# EAGLE library part MT25QL01GBBB8E12-0AUT (library My_Library)
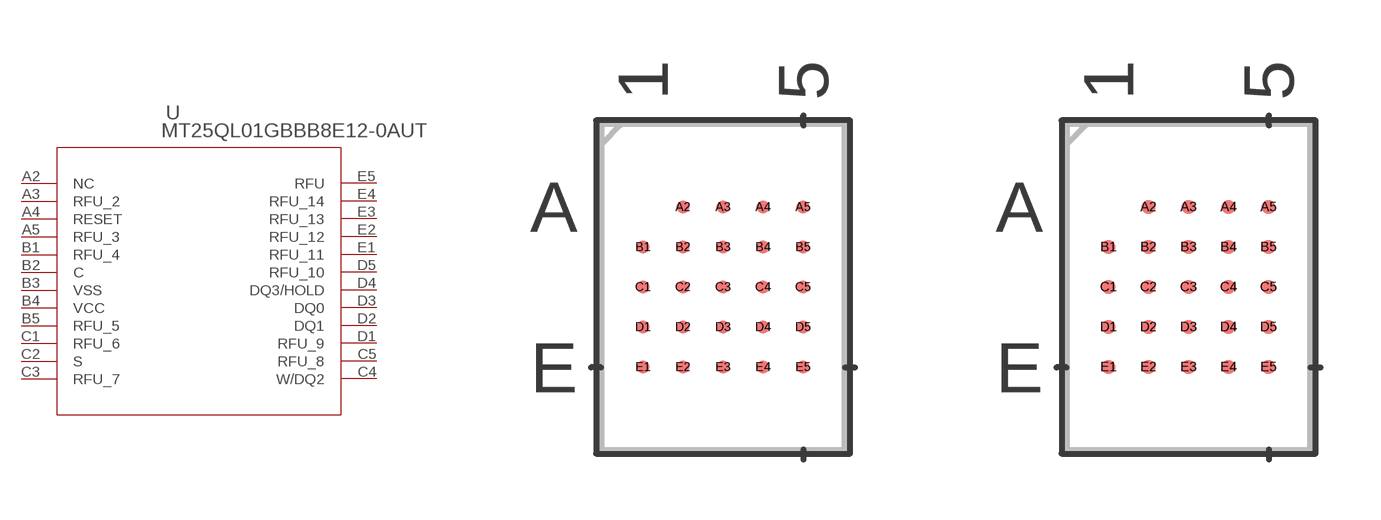
[diagram p17: symbol with the pads of BGA24_MT25QL_MRN; footprints BGA24_MT25QL_MRN, BGA24_MT25QL_MRN-M]

Designator prefix U

## MT25QL01GBBB8E12-0AUT (COPYRIGHT: Copyright (C) 2024 Ultra Librarian. All rights reserved.; MANUFACTURER_PART_NUMBER: MT25QL01GBBB8E12-0AUT; MFR_NAME: Micron)  [BGA24_MT25QL_MRN]
A2  NC  nc
A3  RFU_2  nc
A4  RESET  in
A5  RFU_3  nc
B1  RFU_4  nc
B2  C  in
B3  VSS  pas
B4  VCC  pwr
B5  RFU_5  nc
C1  RFU_6  nc
C2  S  in
C3  RFU_7  nc
C4  W/DQ2
C5  RFU_8  nc
D1  RFU_9  nc
D2  DQ1
D3  DQ0
D4  DQ3/HOLD
D5  RFU_10  nc
E1  RFU_11  nc
E2  RFU_12  nc
E3  RFU_13  nc
E4  RFU_14  nc
E5  RFU  nc

## MT25QL01GBBB8E12-0AUTBGA24_MT25QL_MRN-M (COPYRIGHT: Copyright (C) 2024 Ultra Librarian. All rights reserved.; MANUFACTURER_PART_NUMBER: MT25QL01GBBB8E12-0AUT; MFR_NAME: Micron)  [BGA24_MT25QL_MRN-M]
Pads as for BGA24_MT25QL_MRN

## MT25QL01GBBB8E12-0AUTBGA24_MT25QL_MRN-L (COPYRIGHT: Copyright (C) 2024 Ultra Librarian. All rights reserved.; MANUFACTURER_PART_NUMBER: MT25QL01GBBB8E12-0AUT; MFR_NAME: Micron)  [BGA24_MT25QL_MRN-L]
Pads as for BGA24_MT25QL_MRN

## Footprint BGA24_MT25QL_MRN (pad centres in mm)
smd 0.33 x 0.33: A2 -1,2; A3 0,2; A4 1,2; A5 2,2; B1 -2,1; B2 -1,1; B3 0,1; B4 1,1; B5 2,1; C1 -2,0; C2 -1,0; C3 0,0; C4 1,0; C5 2,0; D1 -2,-1; D2 -1,-1; D3 0,-1; D4 1,-1; D5 2,-1; E1 -2,-2; E2 -1,-2; E3 0,-2; E4 1,-2; E5 2,-2

## Footprint BGA24_MT25QL_MRN-M (pad centres in mm)
smd 0.356 x 0.356: A2 -1,2; A3 0,2; A4 1,2; A5 2,2; B1 -2,1; B2 -1,1; B3 0,1; B4 1,1; B5 2,1; C1 -2,0; C2 -1,0; C3 0,0; C4 1,0; C5 2,0; D1 -2,-1; D2 -1,-1; D3 0,-1; D4 1,-1; D5 2,-1; E1 -2,-2; E2 -1,-2; E3 0,-2; E4 1,-2; E5 2,-2

## Footprint BGA24_MT25QL_MRN-L (pad centres in mm)
smd 0.305 x 0.305: A2 -1,2; A3 0,2; A4 1,2; A5 2,2; B1 -2,1; B2 -1,1; B3 0,1; B4 1,1; B5 2,1; C1 -2,0; C2 -1,0; C3 0,0; C4 1,0; C5 2,0; D1 -2,-1; D2 -1,-1; D3 0,-1; D4 1,-1; D5 2,-1; E1 -2,-2; E2 -1,-2; E3 0,-2; E4 1,-2; E5 2,-2